# EAGLE library part VNH5019 (library DROIDLIRARY)
Pololu Dual motor drive shield
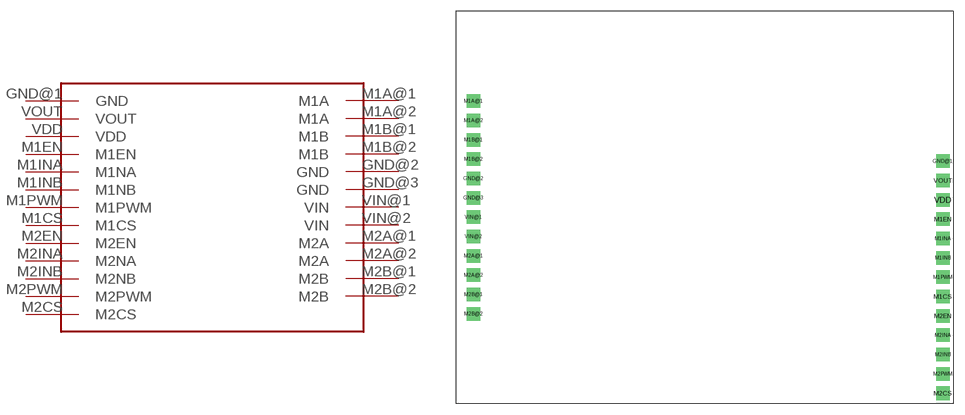
[diagram p0: symbol with the pads of VNH5019_P; footprint VNH5019_P]

Designator prefix -

## VNH5019  [VNH5019_P]
GND@1  GND
GND@2  GND
GND@3  GND
M1A@1  M1A
M1A@2  M1A
M1B@1  M1B
M1B@2  M1B
M1CS  M1CS
M1EN  M1EN
M1INA  M1NA
M1INB  M1NB
M1PWM  M1PWM
M2A@1  M2A
M2A@2  M2A
M2B@1  M2B
M2B@2  M2B
M2CS  M2CS
M2EN  M2EN
M2INA  M2NA
M2INB  M2NB
M2PWM  M2PWM
VDD  VDD
VIN@1  VIN
VIN@2  VIN
VOUT  VOUT

## Footprint VNH5019_P (pad centres in mm)
Pololu Dual VNH5019 Motor Driver Shield
drill 0.9 pad 1.778 square: GND@1 31.3,6.08; GND@2 -30.35,3.81; GND@3 -30.35,1.27; M1A@1 -30.35,13.97; M1A@2 -30.35,11.43; M1B@1 -30.35,8.89; M1B@2 -30.35,6.35; M1CS 31.3,-11.7; M1EN 31.3,-1.54; M1INA 31.3,-4.08; M1INB 31.3,-6.62; M1PWM 31.3,-9.16; M2A@1 -30.35,-6.35; M2A@2 -30.35,-8.89; M2B@1 -30.35,-11.43; M2B@2 -30.35,-13.97; M2CS 31.3,-24.4; M2EN 31.3,-14.24; M2INA 31.3,-16.78; M2INB 31.3,-19.32; M2PWM 31.3,-21.86; VDD 31.3,1; VIN@1 -30.35,-1.27; VIN@2 -30.35,-3.81; VOUT 31.3,3.54